# Altium schematic symbol library Misc.SchLib: 1 symbol
Pins are listed as number, name and electrical type; pins without a type are passive.

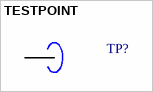
[diagram p0: symbol TESTPOINT]

## TESTPOINT
designator TP?, comment TP  (value not drawn)
SMT Test Point; Manufacturer: Keystone Electronics; Manufacturer PN: 5016; Help: http://www.keyelco.com/product-pdf.cfm?p=1354; Supplier 1: Digi-Key; Supplier Part Number 1: 5016KCT-ND
footprint Testpoint
footprint Testpoint
pins: 1 TP
1 alternate drawing of the same symbol